# Altium schematic symbol library sn74lvc1g08.SchLib: 2 symbols
Pins are listed as number, name and electrical type; pins without a type are passive.

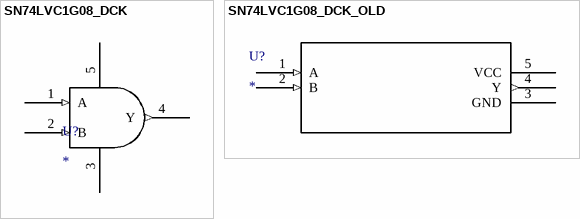
[diagram p0: symbols SN74LVC1G08_DCK to SN74LVC1G08_DCK_OLD]

## SN74LVC1G08_DCK
designator U?
Imported; Manufacturer: Texas Instruments; GENERIC_PART_NUMBER: SN74LVC1G08; Manufacturer_Part_Number: sn74lvc1g08_dck_5; INDUSTRY_STD_PKG_TYPE: SC70; FAMILY_NAME: LL AND GATE; PIN_COUNT: 5; PACKAGE_DESIGNATOR: DCK; Datasheet URL: http://www.ti.com/lit/gpn/SN74LVC1G08; Vendor: Texas Instruments; RefDes: RefDes; Type: DEV; Value: Value
footprint DCK5
pins: 1 A (in), 2 B (in), 3 GND (power), 4 Y (out), 5 VCC (power)

## SN74LVC1G08_DCK_OLD
designator U?
Imported; Manufacturer: Texas Instruments; GENERIC_PART_NUMBER: SN74LVC1G08; Manufacturer_Part_Number: sn74lvc1g08_dck_5; INDUSTRY_STD_PKG_TYPE: SC70; FAMILY_NAME: LL AND GATE; PIN_COUNT: 5; PACKAGE_DESIGNATOR: DCK; Datasheet URL: http://www.ti.com/lit/gpn/SN74LVC1G08; Vendor: Texas Instruments; RefDes: RefDes; Type: DEV; Value: Value
footprint DCK5
pins: 1 A (in), 2 B (in), 3 GND (power), 4 Y (out), 5 VCC (power)